# Altium schematic symbol library RF_ZigBee.SchLib: 7 symbols
Pins are listed as number, name and electrical type; pins without a type are passive.

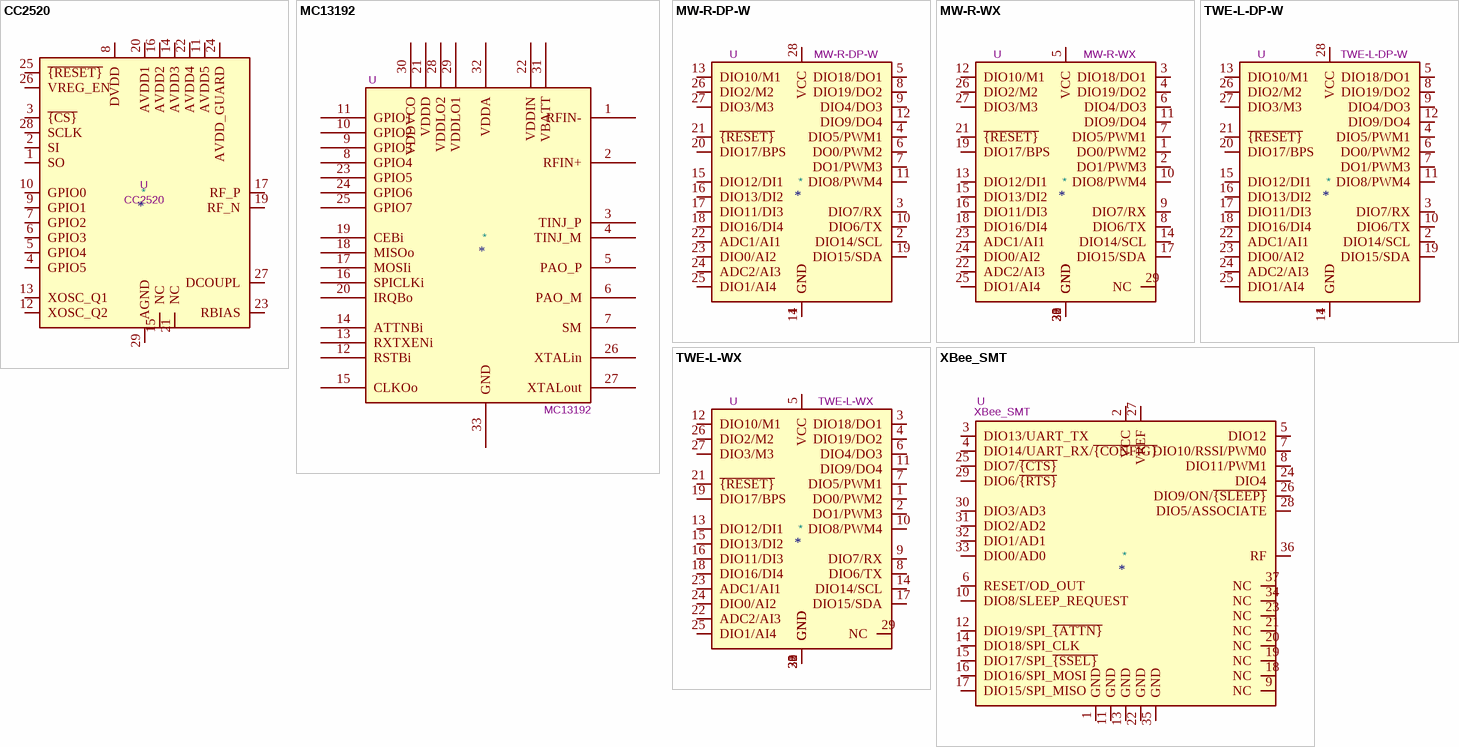
[diagram p0: symbols CC2520 to XBee_SMT]

## CC2520
designator *  value CC2520  Reference: U
2.4 GHz ZigBee/IEEE 802.15.4 RF transceiver; ki_keywords: 2.4GHz rf transceiver ZigBee 802.15.4; ki_fp_filters: *QFN*28*5x5mm*P0.5mm*; Footprint: Package_DFN_QFN:QFN-28-1EP_5x5mm_P0.5mm_EP3.35x3.35mm; Datasheet: http://www.ti.com/lit/gpn/cc2520; Description_: 2.4 GHz ZigBee/IEEE 802.15.4 RF transceiver
pins: 1 SO, 2 SI, 3 ~{{CS}}, 4 GPIO5, 5 GPIO4, 6 GPIO3, 7 GPIO2, 8 DVDD, 9 GPIO1, 10 GPIO0, 11 AVDD5, 12 XOSC_Q2, 13 XOSC_Q1, 14 AVDD3, 15 NC, 16 AVDD2, 17 RF_P, 19 RF_N, 20 AVDD1, 21 NC, 22 AVDD4, 23 RBIAS, 24 AVDD_GUARD, 25 ~{{RESET}}, 26 VREG_EN, 27 DCOUPL, 28 SCLK, 29 AGND

## MC13192
designator *  value MC13192  Reference: U
2.4 GHz, Low Power Transceiver for 802.15.4 (Zigbee controller); Datasheet: https://www.nxp.com/products/no-longer-manufactured/2.4-ghz-low-power-transceiver-for-802.15.4:MC13192; Description_: 2.4 GHz, Low Power Transceiver for 802.15.4 (Zigbee controller); ki_keywords: ZIGBEE
pins: 1 RFIN-, 2 RFIN+, 3 TINJ_P, 4 TINJ_M, 5 PAO_P, 6 PAO_M, 7 SM, 8 GPIO4, 9 GPIO3, 10 GPIO2, 11 GPIO1, 12 RSTBi, 13 RXTXENi, 14 ATTNBi, 15 CLKOo, 16 SPICLKi, 17 MOSIi, 18 MISOo, 19 CEBi, 20 IRQBo, 21 VDDD, 22 VDDIN, 23 GPIO5, 24 GPIO6, 25 GPIO7, 26 XTALin, 27 XTALout, 28 VDDLO2, 29 VDDLO1, 30 VDDVCO, 31 VBATT, 32 VDDA, 33 GND

## MW-R-DP-W
designator *  value MW-R-DP-W  Reference: U
NXP JN5164/JN5169 breakout module, DIP; ki_keywords: TWELITE; ki_fp_filters: DIP*28*W15.24mm*; Footprint: Package_DIP:DIP-28_W15.24mm; Datasheet: https://www.mono-wireless.com/jp/products/TWE-Lite-DIP/MW-PDS-TWELITEDIP-JP.pdf; Description_: NXP JN5164/JN5169 breakout module, DIP
pins: 1 GND, 2 DIO14/SCL, 3 DIO7/RX, 4 DIO5/PWM1, 5 DIO18/DO1, 6 DO0/PWM2, 7 DO1/PWM3, 8 DIO19/DO2, 9 DIO4/DO3, 10 DIO6/TX, 11 DIO8/PWM4, 12 DIO9/DO4, 13 DIO10/M1, 14 GND, 15 DIO12/DI1, 16 DIO13/DI2, 17 DIO11/DI3, 18 DIO16/DI4, 19 DIO15/SDA, 20 DIO17/BPS, 21 ~{{RESET}}, 22 ADC1/AI1, 23 DIO0/AI2, 24 ADC2/AI3, 25 DIO1/AI4, 26 DIO2/M2, 27 DIO3/M3, 28 VCC

## MW-R-WX
designator *  value MW-R-WX  Reference: U
NXP JN5164/JN5169 breakout module, SMD; ki_keywords: TWELITE; ki_fp_filters: MonoWireless?TWE*; Footprint: RF_Module:MonoWireless_TWE-L-WX; Datasheet: https://www.mono-wireless.com/jp/products/TWE-LITE/MW-PDS-TWELITE-JP.pdf; Description_: NXP JN5164/JN5169 breakout module, SMD
pins: 1 DO0/PWM2, 2 DO1/PWM3, 3 DIO18/DO1, 4 DIO19/DO2, 5 VCC, 6 DIO4/DO3, 7 DIO5/PWM1, 8 DIO6/TX, 9 DIO7/RX, 10 DIO8/PWM4, 11 DIO9/DO4, 12 DIO10/M1, 13 DIO12/DI1, 14 DIO14/SCL, 15 DIO13/DI2, 16 DIO11/DI3, 17 DIO15/SDA, 18 DIO16/DI4, 19 DIO17/BPS, 20 GND, 21 ~{{RESET}}, 22 ADC2/AI3, 23 ADC1/AI1, 24 DIO0/AI2, 25 DIO1/AI4, 26 DIO2/M2, 27 DIO3/M3, 28 GND, 29 NC, 30 GND, 31 GND, 32 GND

## TWE-L-DP-W
designator *  value TWE-L-DP-W  Reference: U
NXP JN5164/JN5169 breakout module, DIP; ki_keywords: TWELITE; ki_fp_filters: DIP*28*W15.24mm*; Footprint: Package_DIP:DIP-28_W15.24mm; Datasheet: https://www.mono-wireless.com/jp/products/TWE-Lite-DIP/MW-PDS-TWELITEDIP-JP.pdf; Description_: NXP JN5164/JN5169 breakout module, DIP
pins: 1 GND, 2 DIO14/SCL, 3 DIO7/RX, 4 DIO5/PWM1, 5 DIO18/DO1, 6 DO0/PWM2, 7 DO1/PWM3, 8 DIO19/DO2, 9 DIO4/DO3, 10 DIO6/TX, 11 DIO8/PWM4, 12 DIO9/DO4, 13 DIO10/M1, 14 GND, 15 DIO12/DI1, 16 DIO13/DI2, 17 DIO11/DI3, 18 DIO16/DI4, 19 DIO15/SDA, 20 DIO17/BPS, 21 ~{{RESET}}, 22 ADC1/AI1, 23 DIO0/AI2, 24 ADC2/AI3, 25 DIO1/AI4, 26 DIO2/M2, 27 DIO3/M3, 28 VCC

## TWE-L-WX
designator *  value TWE-L-WX  Reference: U
NXP JN5164/JN5169 breakout module, SMD; ki_keywords: TWELITE; ki_fp_filters: MonoWireless?TWE*; Footprint: RF_Module:MonoWireless_TWE-L-WX; Datasheet: https://www.mono-wireless.com/jp/products/TWE-LITE/MW-PDS-TWELITE-JP.pdf; Description_: NXP JN5164/JN5169 breakout module, SMD
pins: 1 DO0/PWM2, 2 DO1/PWM3, 3 DIO18/DO1, 4 DIO19/DO2, 5 VCC, 6 DIO4/DO3, 7 DIO5/PWM1, 8 DIO6/TX, 9 DIO7/RX, 10 DIO8/PWM4, 11 DIO9/DO4, 12 DIO10/M1, 13 DIO12/DI1, 14 DIO14/SCL, 15 DIO13/DI2, 16 DIO11/DI3, 17 DIO15/SDA, 18 DIO16/DI4, 19 DIO17/BPS, 20 GND, 21 ~{{RESET}}, 22 ADC2/AI3, 23 ADC1/AI1, 24 DIO0/AI2, 25 DIO1/AI4, 26 DIO2/M2, 27 DIO3/M3, 28 GND, 29 NC, 30 GND, 31 GND, 32 GND

## XBee_SMT
designator *  value XBee_SMT  Reference: U
Digi Xbee SMT RF module; ki_fp_filters: Digi*XBee*SMT*; Footprint: RF_Module:Digi_XBee_SMT; Datasheet: http://www.digi.com/resources/documentation/digidocs/pdfs/90002126.pdf; Description_: Digi Xbee SMT RF module; ki_keywords: Digi XBee
pins: 1 GND, 2 VCC, 3 DIO13/UART_TX, 4 DIO14/UART_RX/~{{CONFIG}}, 5 DIO12, 6 RESET/OD_OUT, 7 DIO10/RSSI/PWM0, 8 DIO11/PWM1, 9 NC, 10 DIO8/SLEEP_REQUEST, 11 GND, 12 DIO19/SPI_~{{ATTN}}, 13 GND, 14 DIO18/SPI_CLK, 15 DIO17/SPI_~{{SSEL}}, 16 DIO16/SPI_MOSI, 17 DIO15/SPI_MISO, 18 NC, 19 NC, 20 NC, 21 NC, 22 GND, 23 NC, 24 DIO4, 25 DIO7/~{{CTS}}, 26 DIO9/ON/~{{SLEEP}}, 27 VREF, 28 DIO5/ASSOCIATE, 29 DIO6/~{{RTS}}, 30 DIO3/AD3, 31 DIO2/AD2, 32 DIO1/AD1, 33 DIO0/AD0, 34 NC, 35 GND, 36 RF, 37 NC